# Altium footprint library Additional Devices LC.PcbLib: 24 footprints (part 1 of 2)
Each footprint in its own frame and in the unit in brackets; x right, y up, seen from the top. Pads: shape width x height; smd on the part's side, far side on the other; paste and mask are expansions set on the pad; w line width, h text height; cw(c..) or ccw(c..) is an arc to the next point about the centre after c.
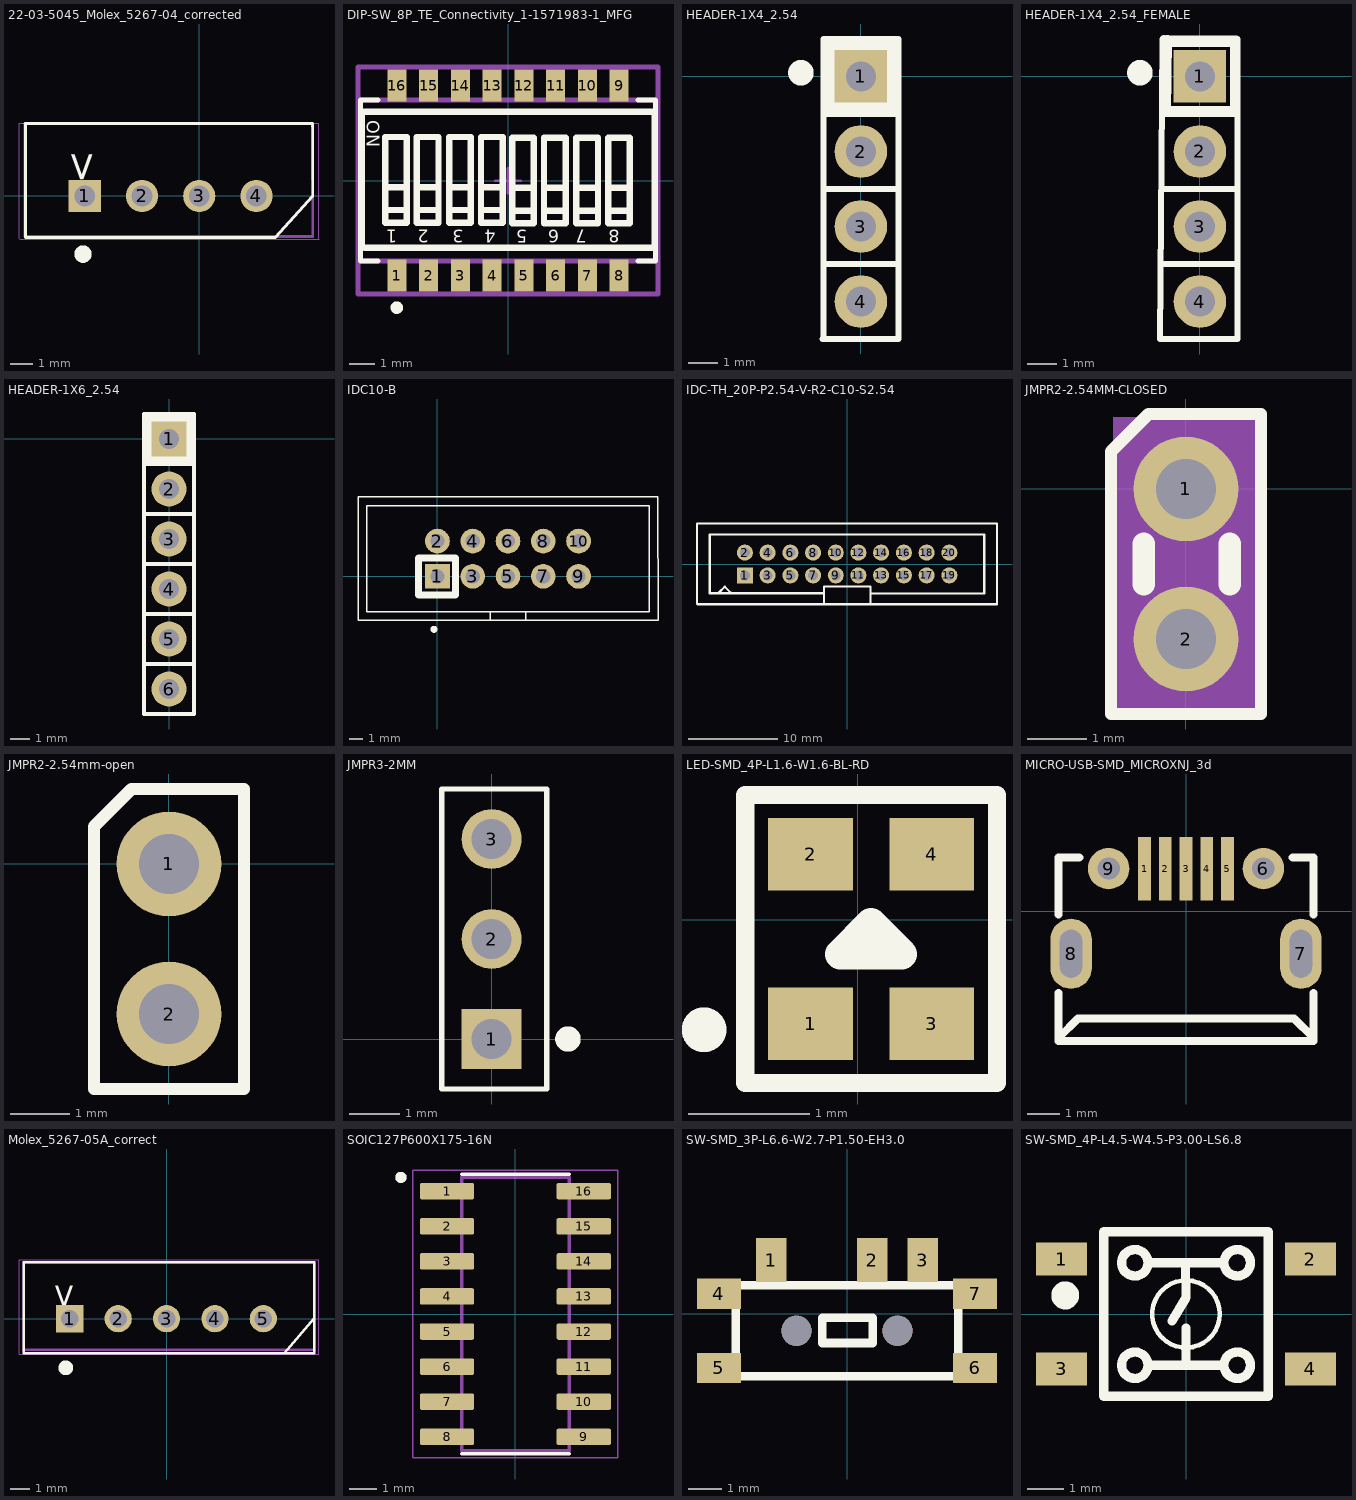
[diagram p0: the footprints below, top view; thin cyan lines are the x and y axes]

## 22-03-5045_Molex_5267-04_corrected [mm] "Mini-Spox 2.5mm 4pin"
pads (4):
  rect 1.408x1.408 hole 0.9: 1(-5,0)
  round 1.408 hole 0.9: 2(-2.5,0) 3(0,0) 4(2.5,0)
Top Overlay:
  circle w0.508: c-5.08,-2.54 r0.127
  lines w0.127: -7.62,3.175 4.957,3.175 4.957,3.155 4.96,3.155 4.96,0.007 3.321,-1.807 -7.601,-1.807 -7.6,3.114 ; 4.953,3.048 4.96,3.041
  text ">" at -5.69,2.007 h1.27
Mechanical 13:
  lines w0.127: 4.953,3.175 4.96,-1.778 -7.62,-1.778 -7.62,3.175 4.96,3.175
Mechanical 15:
  lines w0.05: -7.877,-1.874 -7.877,-0.775 -7.877,1.375 -7.877,3.175 5.21,3.175 5.212,-1.893 ; -7.852,-1.881 5.235,-1.881
3D body "022035045.stp": height 6, standoff -3.4, extent -7.47,-1.778 4.93,3.122

## DIP-SW_8P_TE_Connectivity_1-1571983-1_MFG [mm]
pads (16):
  rect 0.76x1.27 smd paste+0 mask+0: 1(-4.445,-3.795) 2(-3.175,-3.795) 3(-1.905,-3.795) 4(-0.635,-3.795) 5(0.635,-3.795) 6(1.905,-3.795) 7(3.175,-3.795) 8(4.445,-3.795) 9(4.445,3.795) 10(3.175,3.795) 11(1.905,3.795) 12(0.635,3.795) 13(-0.635,3.795) 14(-1.905,3.795) 15(-3.175,3.795) 16(-4.445,3.795)
Top Overlay:
  circle w0.25: c-4.445,-5.08 r0.125
  lines w0.2: -5.2,-3.225 -5.895,-3.225 -5.895,3.225 -5.2,3.225 ; 5.2,-3.225 5.895,-3.225 5.895,3.225 5.2,3.225
  lines w0.254: -5.842,-2.645 -5.842,2.755 ; -5.842,2.743 5.749,2.743 ; -5.726,-2.684 5.865,-2.684 5.865,2.716 ; -4.912,-1.686 -4.048,-1.686 -4.048,1.743 -4.912,1.743 -4.912,-1.686 ; -4.912,-1.178 -4.048,-1.178 -4.048,-0.264 -4.912,-0.264 -4.912,-1.178 ; -3.642,-1.686 -2.778,-1.686 -2.778,1.743 -3.642,1.743 -3.642,-1.686 ; -3.642,-1.178 -2.778,-1.178 -2.778,-0.264 -3.642,-0.264 -3.642,-1.178 ; -2.347,-1.686 -1.483,-1.686 -1.483,1.743 -2.347,1.743 -2.347,-1.686 ; -2.347,-1.178 -1.483,-1.178 -1.483,-0.264 -2.347,-0.264 -2.347,-1.178 ; -1.077,-1.686 -0.213,-1.686 -0.213,1.743 -1.077,1.743 -1.077,-1.686 ; -1.077,-1.178 -0.213,-1.178 -0.213,-0.264 -1.077,-0.264 -1.077,-1.178 ; 0.168,-1.711 1.032,-1.711 1.032,1.718 0.168,1.718 0.168,-1.711 ; 0.168,-1.203 1.032,-1.203 1.032,-0.289 0.168,-0.289 0.168,-1.203 ; 1.438,-1.711 2.302,-1.711 2.302,1.718 1.438,1.718 1.438,-1.711 ; 1.438,-1.203 2.302,-1.203 2.302,-0.289 1.438,-0.289 1.438,-1.203 ; 2.733,-1.711 3.597,-1.711 3.597,1.718 2.733,1.718 2.733,-1.711 ; 2.733,-1.203 3.597,-1.203 3.597,-0.289 2.733,-0.289 2.733,-1.203 ; 4.003,-1.711 4.867,-1.711 4.867,1.718 4.003,1.718 4.003,-1.711 ; 4.003,-1.203 4.867,-1.203 4.867,-0.289 4.003,-0.289 4.003,-1.203
  text "ON" at -5.649,2.404 h0.51
  text "1" at -4.429,-1.965 h0.51
  text "2" at -3.159,-1.965 h0.51
  text "3" at -1.762,-1.965 h0.51
  text "4" at -0.492,-1.965 h0.51
  text "5" at 0.778,-1.965 h0.51
  text "6" at 2.048,-1.965 h0.51
  text "7" at 3.145,-1.965 h0.51
  text "8" at 4.461,-1.965 h0.51
Mechanical 10:
  lines w0.2: -5.995,-4.53 -5.995,4.53 5.995,4.53 5.995,-4.53 -5.995,-4.53
Mechanical 12:
  lines w0.2: -5.895,-3.225 -5.895,3.225 5.895,3.225 5.895,-3.225 -5.895,-3.225
Mechanical 15:
  lines w0.1: -0.5,0 0.5,0 ; 0,-0.5 0,0.5
  lines w0.2: -5.995,-4.53 -5.995,4.53 5.995,4.53 5.995,-4.53 -5.995,-4.53
3D body "Switch_TE_Connectivity_1-1571983-1_eec.STEP": height 2.31, standoff 0, extent -5.635,-4.055 5.645,4.075

## HEADER-1X4_2.54 [mil]
pads (4):
  rect 70x70 hole 40: 1(0,0)
  round 70 hole 40: 2(0,-100) 3(0,-200) 4(0,-300)
Top Overlay:
  circle w20: c-80,5 r7.07
  rectangle: -50,-49.62 50,50
  lines w8: -51,-350 49,-350 ; -50,-250 50,-250 ; -50,-150 50,-150 ; -50,-50 50,-50 ; -50,-350 -50,50 50,50 50,-350 ; -50,-350 50,-350 ; -50,-350 50,-350
3D body: height 470, standoff -120, extent -15,-215 15,-185
3D body: height 100, standoff 0, extent -50,-350 50,50
3D body: height 470, standoff -120, extent -15,-115 15,-85
3D body: height 470, standoff -120, extent -15,-15 15,15
3D body: height 470, standoff -120, extent -15,-315 15,-285
3D body: height 101, standoff 100, extent -35,-35 35.5,35

## HEADER-1X4_2.54_FEMALE [mil]
pads (4):
  rect 70x70 hole 40: 1(0,0)
  round 70 hole 40: 2(0,-100) 3(0,-200) 4(0,-300)
Top Overlay:
  circle w20: c-80,5 r7.07
  lines w8: -51,-350 49,-350 ; -50,-350 50,-350 ; -50,-250 50,-250 ; -50,-150 50,-150 ; -49.69,49.27 -53.32,-350 50,-350 ; -47.52,-50 47.3,-50 ; -45.64,43.41 42.92,42.92 50,50 50,-350
  lines w12: -47.71,49.33 48.13,48.9 ; -45.31,-45.16 45.82,-45.2 45.82,48.94 ; -44.57,-47.76 -43.42,49.2
3D body "zl305-4s_p2-54_l10-66_w2-5_h5.stp": height 196.85, standoff -118.11, extent -49.2,-359.84 49.22,59.84

## HEADER-1X6_2.54 [mil]
pads (6):
  rect 70x70 hole 40: 1(0,0)
  round 70 hole 40: 2(0,-100) 3(0,-200) 4(0,-300) 5(0,-400) 6(0,-500)
Top Overlay:
  rectangle: -50,-49.62 50,50
  lines w8: -50,-250 50,-250 ; -50,-150 50,-150 ; -50,-50 50,-50 ; -50,-550 50,-550 ; -50,-550 50,-550 ; -50,-550 -50,50 50,50 50,-550 ; -50,-550 50,-550 ; -50,-450 50,-450 -50,-450 ; -50,-350 50,-350 -50,-350
3D body: height 101, standoff 100, extent -35,-35 35.5,35
3D body: height 470, standoff -120, extent -15,-515 15,-485
3D body: height 470, standoff -120, extent -15,-415 15,-385
3D body: height 470, standoff -120, extent -15,-315 15,-285
3D body: height 470, standoff -120, extent -15,-15 15,15
3D body: height 470, standoff -120, extent -15,-115 15,-85
3D body: height 100, standoff 0, extent -50,-550 50,50
3D body: height 470, standoff -120, extent -15,-215 15,-185

## IDC10-B [mil]
pads (10):
  rect 70x70 hole 40: 1(0,0)
  round 70 hole 40: 2(0,100) 3(100,0) 4(100,100) 5(200,0) 6(200,100) 7(300,0) 8(300,100) 9(400,0) 10(400,100)
Top Overlay:
  circle w10: c-10,-150 r5
  lines w4: 150,-125 150,-100 600,-100 600,200 -200,200 -200,-100 250,-100 250,-125 ; -225,-125 -225,225 625,225 625,-125 -225,-125
  lines w20: -53.09,-52.9 51.52,-52.9 51.52,52.22 -53.09,52.22 -53.09,-52.9
3D body "BH-10.STEP": height 350.39, standoff -137.8, extent -199.21,-122.16 600,232.16

## IDC-TH_20P-P2.54-V-R2-C10-S2.54 [mm]
pads (20):
  rect 1.8x1.8 hole 1.1: 1(-11.43,-1.27)
  round 1.8 hole 1.1: 2(-11.43,1.27) 3(-8.89,-1.27) 4(-8.89,1.27) 5(-6.35,-1.27) 6(-6.35,1.27) 7(-3.81,-1.27) 8(-3.81,1.27) 9(-1.27,-1.27) 10(-1.27,1.27) 11(1.27,-1.27) 12(1.27,1.27) 13(3.81,-1.27) 14(3.81,1.27) 15(6.35,-1.27) 16(6.35,1.27) 17(8.89,-1.27) 18(8.89,1.27) 19(11.43,-1.27) 20(11.43,1.27)
Top Overlay:
  lines w0.254: -16.789,-4.479 -16.789,4.521 ; -16.761,4.521 16.739,4.521 ; -16.736,-4.496 16.764,-4.496 16.764,4.504 ; -15.367,3.293 -15.367,-3.277 -2.616,-3.277 -2.591,-3.251 ; -15.358,3.302 15.342,3.302 15.342,-3.268 ; -14.326,-3.175 -13.691,-2.54 -13.005,-3.226 -13.005,-3.251 ; -2.591,-4.496 -2.591,-2.515 -2.362,-2.515 2.616,-2.515 2.616,-4.496 2.642,-4.521 ; 2.616,-3.327 2.616,-3.302 15.342,-3.302 15.342,-3.277
3D body "BH-20.STEP": height 8.9, standoff -3.5, extent -16.49,-4.257 16.51,4.743

## JMPR2-2.54MM-CLOSED [mil]
pads (2):
  round 70 hole 40: 1(0,0) 2(0,-100)
Top Overlay:
  lines w8: -50,-150 50,-150 50,50 -25,50 -50,25 -50,-150
  lines w15: -28.32,-63.54 -28.32,-36.54 ; 29.16,-63.37 29.16,-36.37
Top Courtyard:
  rectangle: -48.5,-148 48.5,48
3D body: height 300, standoff -120, extent -15,-115.25 15,-85.25
3D body: height 300, standoff -120, extent -15,-15.25 15,14.75
3D body: height 100, standoff 0, extent -50,-150.43 50,50
3D body: height 220, standoff 100, extent -48,-152 48,48
3D body: height 250, standoff 220, extent -41,-144 40,39.5
3D body: height 280, standoff 250, extent -48,-152 48,48

## JMPR2-2.54mm-open [mil]
pads (2):
  round 70 hole 40: 1(0,0) 2(0,-100)
Top Overlay:
  lines w8: -50,-150 50,-150 50,50 -25,50 -50,25 -50,-150
3D body: height 300, standoff -120, extent -15,-115.25 15,-85.25
3D body: height 300, standoff -120, extent -15,-15.25 15,14.75
3D body: height 100, standoff 0, extent -50,-150.43 50,50

## JMPR3-2MM [mm] "3 PIN JUMPER 2MM PITCH"
pads (3):
  rect 1.2x1.2 hole 0.8: 1(0,0)
  round 1.2 hole 0.8: 2(0,2) 3(0,4)
Top Overlay:
  circle w0.254: c1.524,0 r0.127
  lines w0.102: -1,-1 0,-1 1.1,-1 1.1,5 0,5 -1,5 -1,-1
3D body "29919.stp": height 3.07, standoff -5.33, extent -0.95,-1 1.05,5

## LED-SMD_4P-L1.6-W1.6-BL-RD [mm]
pads (4):
  rect 0.7x0.6 smd: 1(-0.389,-0.861) 2(-0.389,0.539) 3(0.611,-0.861) 4(0.611,0.539)
Top Overlay:
  circle w0.254: c-1.269,-0.911 r0.058
  lines w0.15: -0.929,-1.351 1.151,-1.351 1.151,1.029 -0.929,1.029 -0.929,-1.351
  lines w0.254: -0.143,-0.288 0.365,-0.288 0.111,-0.034 -0.143,-0.288
3D body "LED 0606 bi-color.stp": height 0.7, standoff -0.01, extent -0.747,-0.969 0.955,0.631

## MICRO-USB-SMD_MICROXNJ_3d [mm]
pads (9):
  rect 0.4x2 smd: 1(-1.3,1.327) 2(-0.65,1.327) 3(0,1.327) 4(0.65,1.327) 5(1.3,1.327)
  round 1.3 hole 0.7: 6(2.425,1.335) 9(-2.425,1.335)
  oval 1.3x2.2 hole 0.7 slot 1.5 at 90 deg: 7(3.6,-1.335) 8(-3.6,-1.335)
Top Overlay:
  lines w0.254: -4,-4.073 4,-4.073 4,-2.57 ; -4,-4.052 -4,-2.57 ; -4,-0.1 -4,1.677 -3.344,1.677 ; -3.97,-4.052 -3.97,-3.953 -3.38,-3.363 3.39,-3.363 3.98,-3.953 3.98,-4.073 ; 3.344,1.677 4,1.677 4,-0.1
3D body "105017-0001.stp": height 2.67, standoff -0.63, extent -4.1,-3.937 4.1,1.463

## Molex_5267-05A_correct [mm]
pads (5):
  rect 1.408x1.408 hole 0.9: 1(-5,0)
  round 1.408 hole 0.9: 2(-2.5,0) 3(0,0) 4(2.5,0) 5(5,0)
Top Overlay:
  circle w0.508: c-5.207,-2.54 r0.127
  lines w0.127: 6.096,-1.778 7.627,0.007 ; -7.373,2.921 -7.366,-1.778 7.62,-1.778 7.627,2.921 -7.373,2.921
  text ">" at -5.817,1.88 h1.27
Mechanical 13:
  lines w0.127: -7.373,-1.6 7.627,-1.6 7.627,2.921 -7.373,2.921 -7.373,-1.6
Mechanical 15:
  lines w0.05: -7.623,-1.85 -7.623,3.048 7.877,3.048 7.877,-1.85 -7.623,-1.85
3D body "022035055.stp": height 5.87, standoff -3.53, extent -7.45,-1.852 7.45,3.048

## SOIC127P600X175-16N [mm]
pads (16):
  rrect25% 1.97x0.6 smd: 1(-2.475,4.445) 2(-2.475,3.175) 3(-2.475,1.905) 4(-2.475,0.635) 5(-2.475,-0.635) 6(-2.475,-1.905) 7(-2.475,-3.175) 8(-2.475,-4.445) 9(2.475,-4.445) 10(2.475,-3.175) 11(2.475,-1.905) 12(2.475,-0.635) 13(2.475,0.635) 14(2.475,1.905) 15(2.475,3.175) 16(2.475,4.445)
Top Overlay:
  circle w0.2: c-4.145,4.945 r0.1
  lines w0.127: -1.95,-5.065 1.95,-5.065 ; -1.95,5.065 1.95,5.065
Mechanical 13:
  circle w0.2: c-4.145,4.945 r0.1
  lines w0.127: -1.95,-4.95 -1.95,4.95 1.95,4.95 1.95,-4.95 -1.95,-4.95
Mechanical 15:
  lines w0.05: -3.71,-5.2 -3.71,5.2 3.71,5.2 3.71,-5.2 -3.71,-5.2
3D body "step_temp.STEP": height 1.75, standoff 0, extent -3,-4.95 3,4.95

## SW-SMD_3P-L6.6-W2.7-P1.50-EH3.0 [mm]
pads (9):
  rect 0.9x1.3 smd: 1(-2.25,1.6) 2(0.75,1.6) 3(2.25,1.6)
  rect 1.3x0.9 smd: 4(-3.8,0.6) 5(-3.8,-1.6) 6(3.8,-1.6) 7(3.8,0.6)
  round 0.9 hole 0.9 unplated: ""(-1.5,-0.5) ""(1.5,-0.5)
Top Overlay:
  lines w0.254: -3.3,-1.85 3.3,-1.85 3.3,0.85 -3.3,0.85 -3.3,-1.85 ; -0.74,-0.86 0.76,-0.86 0.76,-0.11 -0.74,-0.11 -0.74,-0.86

## SW-SMD_4P-L4.5-W4.5-P3.00-LS6.8 [mm]
pads (4):
  rect 1.4x0.9 smd: 1(-3.4,1.5) 2(3.4,1.5) 3(-3.4,-1.5) 4(3.4,-1.5)
Top Overlay:
  circle w0.127: c0,0 r0.922
  circle w0.254: c1.4,1.4 r0.361
  circle w0.254: c-1.4,1.4 r0.361
  circle w0.254: c-1.4,-1.4 r0.361
  circle w0.254: c1.4,-1.4 r0.361
  circle w0.508: c-3.302,0.508 r0.127
  lines w0.254: -1.039,1.4 1.016,1.397 ; -0.889,-1.397 0.889,-1.397 ; -0.381,-0.191 0,0.445 -0.012,1.399 ; 0,-1.397 0,-0.381 ; -2.25,-2.25 2.25,-2.25 2.25,2.25 -2.25,2.25 -2.25,-2.25
3D body "User Library-SW4_5x4_5x5.step": height 5.1, standoff 0, extent -3.4,-2.25 3.4,2.25